# EAGLE library part LAIRD_BL652 (library ewheel32)
Bluetooth Low Energy Module
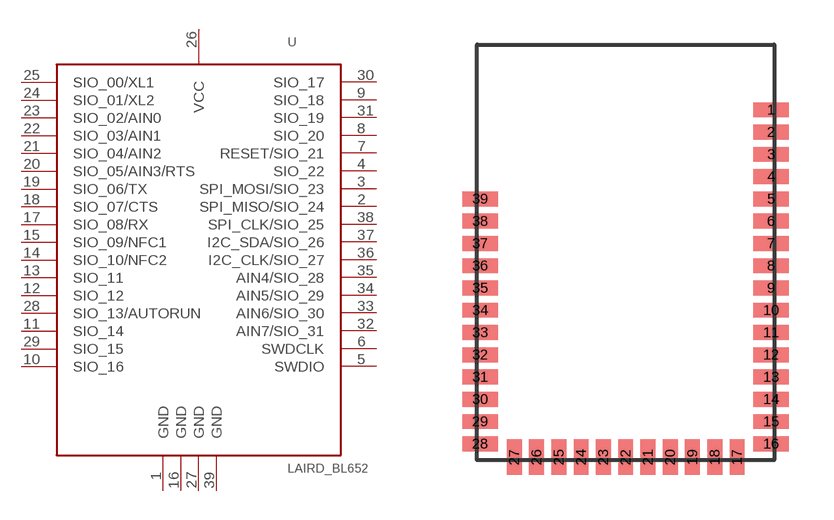
[diagram p7: symbol with the pads of BL652; footprint BL652]

Designator prefix -

## LAIRD_BL652  [BL652]
1  GND  pwr
2  SPI_MISO/SIO_24
3  SPI_MOSI/SIO_23
4  SIO_22
5  SWDIO
6  SWDCLK
7  RESET/SIO_21
8  SIO_20
9  SIO_18
10  SIO_16
11  SIO_14
12  SIO_12
13  SIO_11
14  SIO_10/NFC2
15  SIO_09/NFC1
16  GND  pwr
17  SIO_08/RX
18  SIO_07/CTS
19  SIO_06/TX
20  SIO_05/AIN3/RTS
21  SIO_04/AIN2
22  SIO_03/AIN1
23  SIO_02/AIN0
24  SIO_01/XL2
25  SIO_00/XL1
26  VCC  pwr
27  GND  pwr
28  SIO_13/AUTORUN
29  SIO_15
30  SIO_17
31  SIO_19
32  AIN7/SIO_31
33  AIN6/SIO_30
34  AIN5/SIO_29
35  AIN4/SIO_28
36  I2C_CLK/SIO_27
37  I2C_SDA/SIO_26
38  SPI_CLK/SIO_25
39  GND  pwr

## Footprint BL652 (pad centres in mm)
smd 1.2 x 0.5: 1 4.9,4.8; 2 4.9,4.05; 3 4.9,3.3; 4 4.9,2.55; 5 4.9,1.8; 6 4.9,1.05; 7 4.9,0.3; 8 4.9,-0.45; 9 4.9,-1.2; 10 4.9,-1.95; 11 4.9,-2.7; 12 4.9,-3.45; 13 4.9,-4.2; 14 4.9,-4.95; 15 4.9,-5.7; 16 4.9,-6.45; 28 -4.9,-6.45; 29 -4.9,-5.7; 30 -4.9,-4.95; 31 -4.9,-4.2; 32 -4.9,-3.45; 33 -4.9,-2.7; 34 -4.9,-1.95; 35 -4.9,-1.2; 36 -4.9,-0.45; 37 -4.9,0.3; 38 -4.9,1.05; 39 -4.9,1.8
smd 0.5 x 1.2: 17 3.75,-6.9; 18 3,-6.9; 19 2.25,-6.9; 20 1.5,-6.9; 21 0.75,-6.9; 22 0,-6.9; 23 -0.75,-6.9; 24 -1.5,-6.9; 25 -2.25,-6.9; 26 -3,-6.9; 27 -3.75,-6.9